# Altium schematic symbol library Optoisolators.SchLib: 2 symbols
Pins are listed as number, name and electrical type; pins without a type are passive.

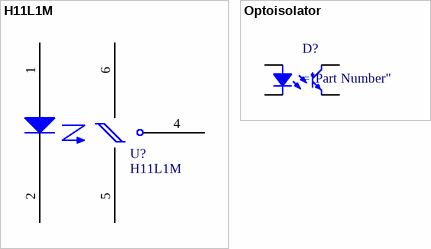
[diagram p0: symbols H11L1M to Optoisolator]

## H11L1M
designator U?
Optocoupler, Schmitt Trigger Output; Supplier 1: Digi-Key; Supplier Part Number 1: H11L1SR2MCT-ND
footprint ON SEMI SMT-6_V (SMT, 6-Leads, Body 8.51x6.35mm, Pitch 2.54mm)
pins: 1 Anonde, 2 Cathode, 4 Vo, 5 GND, 6 Vcc

## Optoisolator
designator D?
pins: 1, 2, 3, 4